# Altium integrated library 3314J-1-501E.IntLib: 1 symbol
Pins are listed as number, name and electrical type; pins without a type are passive.

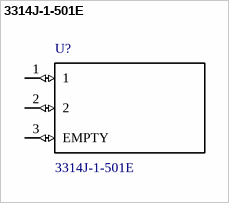
[diagram p0: symbol 3314J-1-501E]

## 3314J-1-501E
designator U?
/ Res Cermet Trimmer 500 Ohm 20% 0.25W_1/4W_ 1_Elec_/1_Mech_Turns 2.45mm _5 X 5 X 2.55mm_ J-Hook SMD T/R /; MF: Bourns; SnapEDA_Link: https://www.snapeda.com/parts/3314J-1-501E/Bourns/view-part/?ref=snap; Package: DFN-8 Bourns; MP: 3314J-1-501E; Price: None; Availability: Unavailable; Value: *
footprint *TRIM_3314J-1-202E
pins: 1 (io), 2 (io), 3 EMPTY (io)